# Altium integrated library TRANS_PQ3220.IntLib: 1 symbol
Pins are listed as number, name and electrical type; pins without a type are passive.

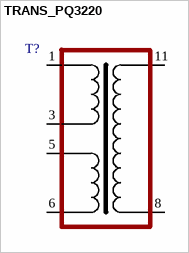
[diagram p0: symbol TRANS_PQ3220]

## TRANS_PQ3220
designator T?
footprint TRANS_PQ3220
pins: 1, 3, 5, 6, 8, 11